# Altium integrated library TLI4971A050T5UE0001XUMA1.IntLib: 1 symbol
Pins are listed as number, name and electrical type; pins without a type are passive.

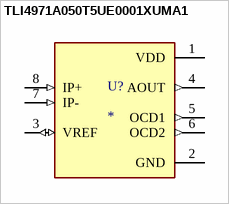
[diagram p0: symbol TLI4971A050T5UE0001XUMA1]

## TLI4971A050T5UE0001XUMA1
designator U?
Current Sensor 50A 1 Channel Hall Effect, Open Loop Unidirectional 8-PowerTDFN; MF: Infineon Technologies; MP: TLI4971A050T5UE0001XUMA1; SnapEDA_Link: https://www.snapeda.com/parts/TLI4971A050T5UE0001XUMA1/Infineon/view-part/?ref=snap; Package: PowerTDFN-8 Infineon Technologies; Value: *; Check_prices: https://www.snapeda.com/parts/TLI4971A050T5UE0001XUMA1/Infineon/view-part/?ref=eda
footprint IC_TLI4971A050T5UE0001XUMA1
pins: 1 VDD (power), 2 GND (power), 3 VREF (io), 4 AOUT (out), 5 OCD1 (out), 6 OCD2 (out), 7 IP- (in), 8 IP+ (in)